# Altium footprint library LocalLib.PcbLib: 36 footprints (part 2 of 3)
Each footprint in its own frame and in the unit in brackets; x right, y up, seen from the top. Pads: shape width x height; smd on the part's side, far side on the other; paste and mask are expansions set on the pad; w line width, h text height; cw(c..) or ccw(c..) is an arc to the next point about the centre after c.
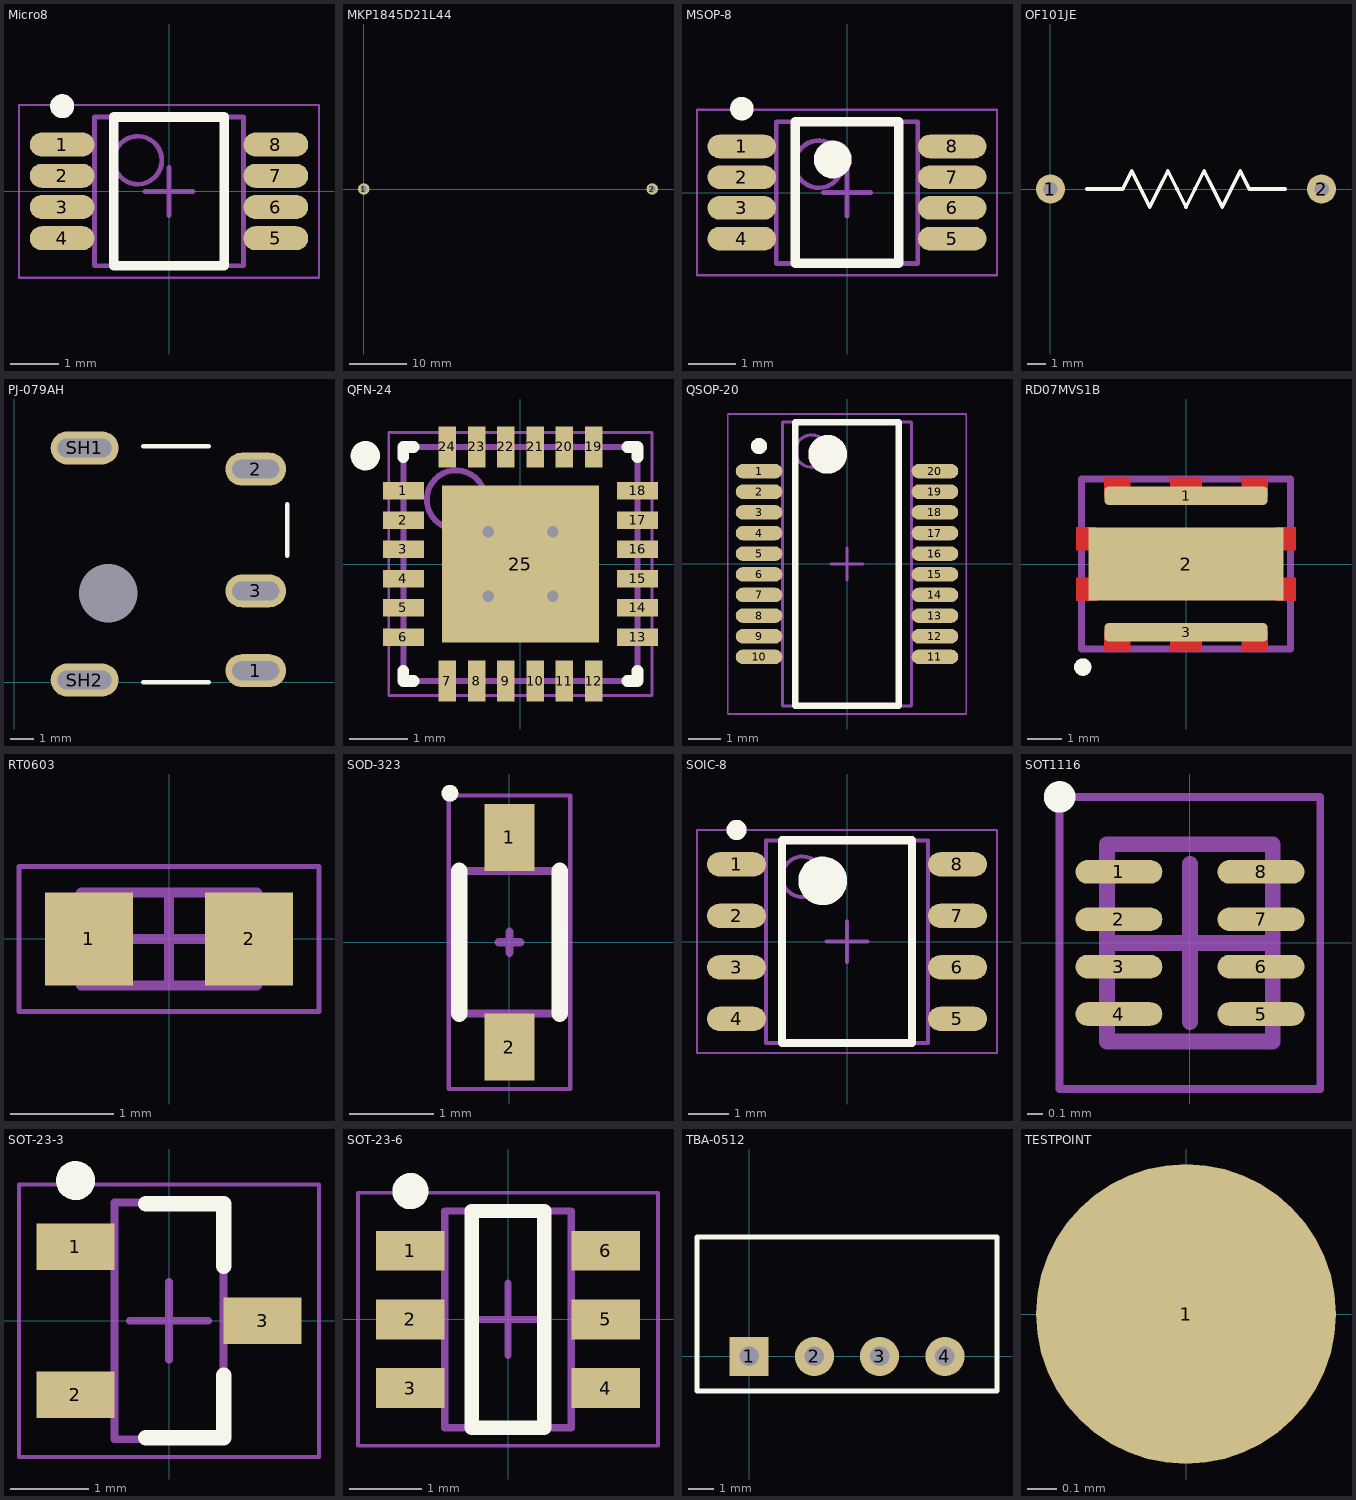
[diagram p1: the footprints below, top view; thin cyan lines are the x and y axes]

## Micro8 [mm] "TSOP, 8-Leads, Body 3,00x3,00mm, Pitch 0,65mm, IPC Medium Density"
height 1.11
pads (8):
  oval 1.35x0.5 smd: 1(-2.225,0.975) 2(-2.225,0.325) 3(-2.225,-0.325) 4(-2.225,-0.975) 5(2.225,-0.975) 6(2.225,-0.325) 7(2.225,0.325) 8(2.225,0.975)
Top Overlay:
  circle w0.25: c-2.225,1.775 r0.125
  lines w0.2: -1.15,-1.55 -1.15,1.55 1.15,1.55 1.15,-1.55 -1.15,-1.55
Mechanical 13:
  circle w0.1: c-0.65,0.65 r0.5
  lines w0.1: -1.55,-1.55 -1.55,1.55 1.55,1.55 1.55,-1.55 -1.55,-1.55
Mechanical 15:
  lines w0.05: -3.125,-1.8 -3.125,1.8 3.125,1.8 3.125,-1.8 -3.125,-1.8
  lines w0.1: -0.5,0 0.5,0 ; 0,-0.5 0,0.5
3D body "TSOP65P490X111-8N.step": height 1.11, standoff 0, extent -2.452,-1.55 2.452,1.55

## MKP1845D21L44 [mm]
pads (2):
  round 2 hole 1.2: 1(0,0) 2(50,0)
3D body "Резистор1.2.STEP": height 27.5, standoff -18, extent -0.5,-10.5 50.5,10.5

## MSOP-8 [mm] "TSOP, 8-Leads, Body 2,90x2,90mm, Pitch 0,65mm, IPC Medium Density"
height 1.1
pads (8):
  oval 1.45x0.5 smd: 1(-2.225,0.975) 2(-2.225,0.325) 3(-2.225,-0.325) 4(-2.225,-0.975) 5(2.225,-0.975) 6(2.225,-0.325) 7(2.225,0.325) 8(2.225,0.975)
Top Overlay:
  circle w0.25: c-2.225,1.775 r0.125
  circle w0.4: c-0.3,0.7 r0.2
  lines w0.2: -1.1,-1.5 -1.1,1.5 1.1,1.5 1.1,-1.5 -1.1,-1.5
Mechanical 13:
  circle w0.1: c-0.6,0.6 r0.5
  lines w0.1: -1.5,-1.5 -1.5,1.5 1.5,1.5 1.5,-1.5 -1.5,-1.5
Mechanical 15:
  lines w0.05: -3.175,-1.75 -3.175,1.75 3.175,1.75 3.175,-1.75 -3.175,-1.75
  lines w0.1: -0.5,0 0.5,0 ; 0,-0.5 0,0.5
3D body "TSOP65P490X110-8N.step": height 1.1, standoff 0, extent -2.45,-1.5 2.45,1.5

## OF101JE [mm]
pads (2):
  round 1.6 hole 0.8: 1(0,0) 2(15,0)
Top Overlay:
  lines w0.2: 2,0 4,0 4.5,1 5,0 5.5,-1 6,0 6.5,1 7,0 7.5,-1 8,0 8.5,1 9,0 9.5,-1 10,0 10.5,1 11,0 13,0
3D body "Резистор1.1.STEP": height 5.73, standoff -25, extent -0.35,-1.9 15.35,1.9

## PJ-079AH [mm]
pads (6):
  oval 2.6x1.4 hole 0.8 slot 2 at 0 deg: 1(10.3,0.5) 2(10.3,9.1) 3(10.3,3.9)
  round 0 hole 2.5 unplated: 6(4,3.8)
  oval 2.9x1.4 hole 0.8 slot 2.3 at 0 deg: SH1(3,10) SH2(3,0.1)
Top Overlay:
  lines w0.2: 5.5,0 8.3,0 ; 5.5,10.07 8.3,10.07 ; 11.65,5.4 11.65,7.6
3D body "CUI_PJ-079AH.step": height 7.3, standoff -2.48, extent 0,0 11.65,10.07

## QFN-24 [mm] "PQFN, 24-Leads, Body 4,00x4,00mm, Pitch 0,50mm, Thermal Pad 2,68x2,68mm, IPC Medium Density"
height 0.8
pads (25):
  rect 0.7x0.3 smd: 1(-2,1.25) 2(-2,0.75) 3(-2,0.25) 4(-2,-0.25) 5(-2,-0.75) 6(-2,-1.25) 13(2,-1.25) 14(2,-0.75) 15(2,-0.25) 16(2,0.25) 17(2,0.75) 18(2,1.25)
  rect 0.3x0.7 smd: 7(-1.25,-2) 8(-0.75,-2) 9(-0.25,-2) 10(0.25,-2) 11(0.75,-2) 12(1.25,-2) 19(1.25,2) 20(0.75,2) 21(0.25,2) 22(-0.25,2) 23(-0.75,2) 24(-1.25,2)
  rect 2.68x2.68 smd: 25(0,0)
via 0.55,-0.55 diameter 0.5 hole 0.2
via -0.55,-0.55 diameter 0.5 hole 0.2
via 0.55,0.55 diameter 0.5 hole 0.2
via -0.55,0.55 diameter 0.5 hole 0.2
Top Overlay:
  circle w0.25: c-2.65,1.85 r0.125
  lines w0.2: -2,-1.825 -2,-2 -1.825,-2 ; -2,1.825 -2,2 -1.825,2 ; 1.825,-2 2,-2 2,-1.825 ; 1.825,2 2,2 2,1.825
Mechanical 13:
  circle w0.1: c-1.1,1.1 r0.5
  lines w0.1: -2,-2 2,-2 2,2 -2,2 -2,-2
Mechanical 15:
  lines w0.05: -2.25,-2.25 2.25,-2.25 2.25,2.25 -2.25,2.25 -2.25,-2.25
  lines w0.1: -0.5,0 0.5,0 ; 0,-0.5 0,0.5
3D body "PQFN50P400X400X80_HS-25N.step": height 0.8, standoff 0, extent -2,-2 2,2

## QSOP-20 [mm] "SOP, 20-Leads, Body 8,66x3,91mm, Pitch 0,64mm, IPC Medium Density"
height 1.75
pads (20):
  oval 1.45x0.45 smd: 1(-2.725,2.88) 2(-2.725,2.24) 3(-2.725,1.6) 4(-2.725,0.96) 5(-2.725,0.32) 6(-2.725,-0.32) 7(-2.725,-0.96) 8(-2.725,-1.6) 9(-2.725,-2.24) 10(-2.725,-2.88) 11(2.725,-2.88) 12(2.725,-2.24) 13(2.725,-1.6) 14(2.725,-0.96) 15(2.725,-0.32) 16(2.725,0.32) 17(2.725,0.96) 18(2.725,1.6) 19(2.725,2.24) 20(2.725,2.88)
Top Overlay:
  circle w0.6: c-0.6,3.4 r0.3
  circle w0.25: c-2.725,3.655 r0.125
  lines w0.2: -1.6,-4.4 1.6,-4.4 1.6,4.4 -1.6,4.4 -1.6,-4.4
Mechanical 13:
  circle w0.1: c-1.1,3.5 r0.5
  lines w0.1: -2,-4.4 2,-4.4 2,4.4 -2,4.4 -2,-4.4
Mechanical 15:
  lines w0.05: -3.7,-4.65 3.7,-4.65 3.7,4.65 -3.7,4.65 -3.7,-4.65
  lines w0.1: -0.5,0 0.5,0 ; 0,-0.5 0,0.5
3D body "SOP64P600X175-20N.step": height 1.75, standoff 0, extent -2.997,-4.4 2.997,4.4

## RD07MVS1B [mm] "SLP Package"
pads (3):
  rrect50% 4.7x0.53 smd: 1(0,1.965) 3(0,-1.965)
  rect 5.6x2.1 smd: 2(0,0)
Top Layer:
  region: 2.35,-1.92 2.35,-2.5 1.6,-2.5 1.6,-1.92
  region: -2.35,-1.905 -2.35,-2.5 -1.6,-2.5 -1.6,-1.905
  region: 0.1,-1.965 -0.45,-1.965 -0.45,-2.5 0.1,-2.5
  region: -0.08,-1.965 0.45,-1.965 0.45,-2.5 -0.08,-2.5
  region: -0.08,1.965 0.45,1.965 0.45,2.5 -0.08,2.5
  region: 0.1,1.965 -0.45,1.965 -0.45,2.5 0.1,2.5
  region: 2.6,-0.4 3.15,-0.4 3.15,-1.05 2.6,-1.05
  region: -2.55,-0.4 -3.1,-0.4 -3.1,-1.05 -2.55,-1.05
  region: -2.6,-0.4 -3.15,-0.4 -3.15,-1.05 -2.6,-1.05
  region: 2.6,1.05 3.15,1.05 3.15,0.4 2.6,0.4
  region: -2.6,1.05 -3.15,1.05 -3.15,0.4 -2.6,0.4
  region: -2.35,1.905 -2.35,2.5 -1.6,2.5 -1.6,1.905
  region: 2.35,1.92 2.35,2.5 1.6,2.5 1.6,1.92
Top Overlay:
  circle w0.25: c-2.969,-2.965 r0.125
Mechanical 1:
  lines w0.2: -3,-2.45 -3,2.45 0,2.45 3,2.45 3,-2.45 -3,-2.45
3D body: height 0.75, standoff 0, extent -3,-2.45 3,2.45

## RT0603 [mm] "Chip Resistor, 2-Leads, Body 1,60x0,80mm, IPC Medium Density"
height 0.55
pads (2):
  rect 0.85x0.9 smd: 1(-0.775,0) 2(0.775,0)
Mechanical 13:
  lines w0.1: -0.85,-0.45 0.85,-0.45 0.85,0.45 -0.85,0.45 -0.85,-0.45
Mechanical 15:
  lines w0.05: -1.45,-0.7 1.45,-0.7 1.45,0.7 -1.45,0.7 -1.45,-0.7
  lines w0.1: -0.45,0 0.45,0 ; 0,-0.45 0,0.45
3D body "RESC1608X06N.step": height 0.55, standoff 0, extent -0.85,-0.45 0.85,0.45

## SOD-323 [mm]
pads (2):
  rect 0.6x0.8 smd: 1(0,1.25) 2(0,-1.25)
Top Overlay:
  circle w0.1: c-0.71,1.778 r0.05
  lines w0.2: -0.6,-0.85 -0.6,0.85 ; 0.6,-0.85 0.6,0.85
Mechanical 13:
  lines w0.1: -0.625,-0.85 0.625,-0.85 0.625,0.85 -0.625,0.85 -0.625,-0.85
Mechanical 15:
  lines w0.05: -0.725,-1.75 0.725,-1.75 0.725,1.75 -0.725,1.75 -0.725,-1.75
  lines w0.1: -0.127,0 0.127,0 ; 0,-0.127 0,0.127
3D body "User Library-SOD323-1.step": height 1.1, standoff 0, extent -0.675,-1.3 0.675,1.3

## SOIC-8 [mm] "SOIC, 8-Leads, Body 4,91x3,90mm, Pitch 1,27mm, IPC Medium Density"
height 1.75
pads (8):
  oval 1.45x0.6 smd: 1(-2.725,1.905) 2(-2.725,0.635) 3(-2.725,-0.635) 4(-2.725,-1.905) 5(2.725,-1.905) 6(2.725,-0.635) 7(2.725,0.635) 8(2.725,1.905)
Top Overlay:
  circle w0.25: c-2.725,2.755 r0.125
  circle w0.6: c-0.6,1.5 r0.3
  lines w0.2: -1.6,-2.5 -1.6,2.5 1.6,2.5 1.6,-2.5 -1.6,-2.5
Mechanical 13:
  circle w0.1: c-1.1,1.6 r0.5
  lines w0.1: -2,-2.5 -2,2.5 2,2.5 2,-2.5 -2,-2.5
Mechanical 15:
  lines w0.05: -3.7,-2.75 -3.7,2.75 3.7,2.75 3.7,-2.75 -3.7,-2.75
  lines w0.1: -0.5,0 0.5,0 ; 0,-0.5 0,0.5
3D body "SOIC127P600X175-8N.step": height 1.75, standoff 0, extent -2.997,-2.5 2.997,2.5

## SOT1116 [mm] "QFN, 8-Leads, Body 1,00x1,20mm, Pitch 0,55mm/0,30mm, IPC High Density"
height 0.35
pads (8):
  oval 0.55x0.15 smd mask+0.025: 1(-0.45,0.45) 2(-0.45,0.15) 3(-0.45,-0.15) 4(-0.45,-0.45) 5(0.45,-0.45) 6(0.45,-0.15) 7(0.45,0.15) 8(0.45,0.45)
Top Overlay:
  circle w0.1: c-0.825,0.925 r0.05
Mechanical 13:
  lines w0.1: -0.525,-0.625 0.525,-0.625 0.525,0.625 -0.525,0.625 -0.525,-0.625
Mechanical 15:
  lines w0.05: -0.825,-0.925 0.825,-0.925 0.825,0.925 -0.825,0.925 -0.825,-0.925
  lines w0.1: -0.5,0 0.5,0 ; 0,-0.5 0,0.5
3D body "QFN30P100X120X35-8L.step": height 0.35, standoff 0, extent -0.565,-0.625 0.565,0.625

## SOT-23-3 [mm] "SOT23, 3-Leads, Body 2,92x2,37mm, Pitch 0,95mm, IPC Medium Density"
height 1.12
pads (3):
  rect 1x0.6 smd: 1(-1.2,0.95) 2(-1.2,-0.95) 3(1.2,0)
Top Overlay:
  circle w0.25: c-1.2,1.8 r0.125
  lines w0.2: -0.3,-1.5 0.7,-1.5 0.7,-0.7 ; -0.3,1.5 0.7,1.5 0.7,0.7
Mechanical 13:
  lines w0.1: -0.7,-1.52 -0.7,1.52 0.7,1.52 0.7,-1.52 -0.7,-1.52
Mechanical 15:
  lines w0.05: -1.925,-1.75 -1.925,1.75 1.925,1.75 1.925,-1.75 -1.925,-1.75
  lines w0.1: -0.5,0 0.5,0 ; 0,-0.5 0,0.5
3D body "SOT95P237X112-3N.step": height 1.12, standoff 0, extent -1.32,-1.52 1.32,1.52

## SOT-23-6 [mm] "SOT23, 6-Leads, Body 2,90x2,80mm, Pitch 0,95mm, IPC Medium Density"
height 1
pads (6):
  rect 0.95x0.55 smd: 1(-1.35,0.95) 2(-1.35,0) 3(-1.35,-0.95) 4(1.35,-0.95) 5(1.35,0) 6(1.35,0.95)
Top Overlay:
  circle w0.25: c-1.35,1.775 r0.125
  lines w0.2: -0.5,-1.5 0.5,-1.5 0.5,1.5 -0.5,1.5 -0.5,-1.5
Mechanical 13:
  lines w0.1: -0.875,-1.5 -0.875,1.5 0.875,1.5 0.875,-1.5 -0.875,-1.5
Mechanical 15:
  lines w0.05: -2.075,-1.75 -2.075,1.75 2.075,1.75 2.075,-1.75 -2.075,-1.75
  lines w0.1: -0.5,0 0.5,0 ; 0,-0.5 0,0.5
3D body "SOT95P280X100-6N.step": height 1, standoff 0, extent -1.4,-1.5 1.4,1.5

## TBA-0512 [mil]
pads (4):
  rect 60x60 hole 30: 1(0,0)
  round 60 hole 30: 2(100,0) 3(200,0) 4(300,0)
Top Overlay:
  lines w7.87: -79.92,-53.15 -79.92,183.07 379.92,183.07 379.92,-53.15 -79.92,-53.15
3D body: height 399.61, standoff 0, extent -79.92,-53.15 379.92,183.07

## TESTPOINT [mil]
pads (1):
  round 40 smd: 1(0,0)